# Altium footprint library IC_Cirrus_Logic_WM8960CGEFL-V_eec_0.PcbLib: 1 footprints
Each footprint in its own frame and in the unit in brackets; x right, y up, seen from the top. Pads: shape width x height; smd on the part's side, far side on the other; paste and mask are expansions set on the pad; w line width, h text height; cw(c..) or ccw(c..) is an arc to the next point about the centre after c.
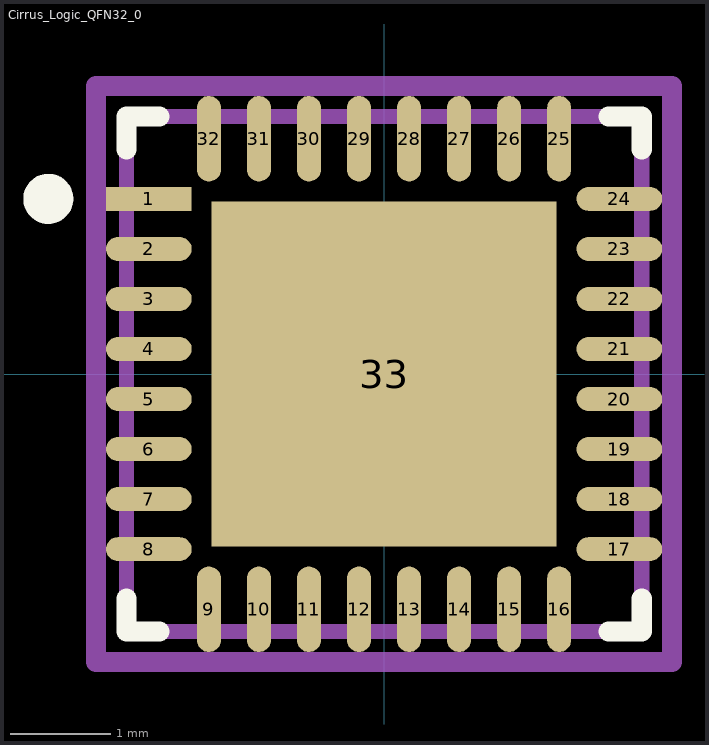
[diagram p0: the footprint, top view; thin cyan lines are the x and y axes]

## Cirrus_Logic_QFN32_0 [mm]
pads (33):
  rect 0.857x0.239 smd paste+0 mask+0: 1(-2.351,1.75)
  oval 0.857x0.239 smd paste+0 mask+0: 2(-2.351,1.25) 3(-2.351,0.75) 4(-2.351,0.25) 5(-2.351,-0.25) 6(-2.351,-0.75) 7(-2.351,-1.25) 8(-2.351,-1.75) 17(2.351,-1.75) 18(2.351,-1.25) 19(2.351,-0.75) 20(2.351,-0.25) 21(2.351,0.25) 22(2.351,0.75) 23(2.351,1.25) 24(2.351,1.75)
  oval 0.239x0.857 smd paste+0 mask+0: 9(-1.75,-2.351) 10(-1.25,-2.351) 11(-0.75,-2.351) 12(-0.25,-2.351) 13(0.25,-2.351) 14(0.75,-2.351) 15(1.25,-2.351) 16(1.75,-2.351) 25(1.75,2.351) 26(1.25,2.351) 27(0.75,2.351) 28(0.25,2.351) 29(-0.25,2.351) 30(-0.75,2.351) 31(-1.25,2.351) 32(-1.75,2.351)
  rect 3.45x3.45 smd paste-1000 mask+0: 33(0,0)
Top Overlay:
  circle w0.25: c-3.354,1.75 r0.125
  lines w0.2: -2.575,-2.245 -2.575,-2.575 -2.245,-2.575 ; -2.575,2.245 -2.575,2.575 -2.245,2.575 ; 2.245,-2.575 2.575,-2.575 2.575,-2.245 ; 2.245,2.575 2.575,2.575 2.575,2.245
Top Paste:
  rectangle: -1.091,-1.091 1.091,1.091
Mechanical 10:
  lines w0.2: -2.879,-2.879 2.879,-2.879 2.879,2.879 -2.879,2.879 -2.879,-2.879
  text ".Designator" at 0,0 h1
Mechanical 12:
  lines w0.15: -2.575,-2.575 2.575,-2.575 2.575,2.575 -2.575,2.575 -2.575,-2.575
Mechanical 15:
  lines w0.1: -0.5,0 0.5,0 ; 0,-0.5 0,0.5
  lines w0.2: -2.879,-2.879 2.879,-2.879 2.879,2.879 -2.879,2.879 -2.879,-2.879
3D body "IC_Cirrus_Logic_WM8960CGEFL-V_eec.STEP": height 0.25, standoff 0, extent -2.879,-2.879 2.879,2.879